# Altium footprint library ESD224DQAR.PcbLib: 1 footprints
Each footprint in its own frame and in the unit in brackets; x right, y up, seen from the top. Pads: shape width x height; smd on the part's side, far side on the other; paste and mask are expansions set on the pad; w line width, h text height; cw(c..) or ccw(c..) is an arc to the next point about the centre after c.
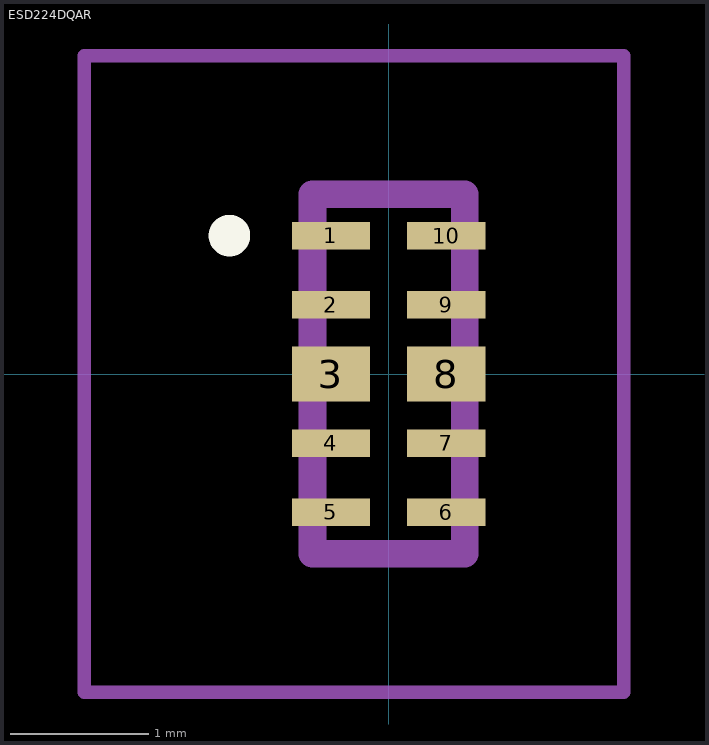
[diagram p0: the footprint, top view; thin cyan lines are the x and y axes]

## ESD224DQAR [mm]
pads (10):
  rect 0.565x0.2 smd: 1(-0.417,1) 2(-0.417,0.5) 4(-0.417,-0.5) 5(-0.417,-1) 6(0.417,-1) 7(0.417,-0.5) 9(0.417,0.5) 10(0.417,1)
  rect 0.565x0.4 smd: 3(-0.417,0) 8(0.417,0)
Top Overlay:
  lines w0.2: -1.2,1 -1.2,1 ; -1.2,1 ccw(c-1.15,1) -1.1,1 ; -1.2,1 cw(c-1.15,1) -1.1,1 ; -1.2,1 -1.2,1 ; -1.2,1 ccw(c-1.15,1) -1.1,1 ; -1.1,1 -1.1,1
Mechanical 15:
  lines w0.2: -0.55,-1.3 0.55,-1.3 0.55,1.3 -0.55,1.3 -0.55,-1.3
Mechanical 20:
  lines w0.1: -2.2,-2.3 1.7,-2.3 1.7,2.3 -2.2,2.3 -2.2,-2.3